# EAGLE library part 9296006 (library J-PokeIn)
[KYOCERA,009296006202906] 6POS POKE-IN
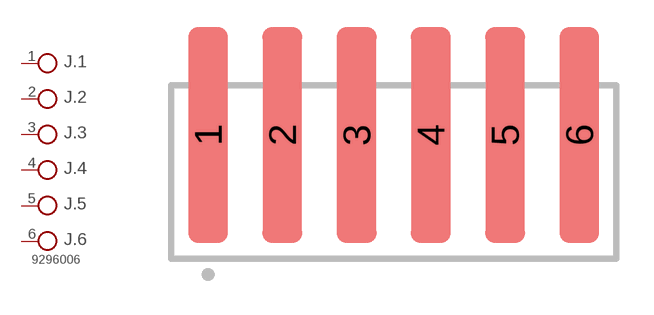
[diagram p0: symbol with the pads of 06; footprint 06]

Designator prefix J; gates .6=SKBV .5=SKB .4=SKB .3=SKB .2=SKB .1=SKB

## 9296006  [06]
1  .1:1  pas
2  .2:1  pas
3  .3:1  pas
4  .4:1  pas
5  .5:1  pas
6  .6:1  pas

## Footprint 06 (pad centres in mm)
smd 1.6 x 8.7: 1 -7.5,1.5; 2 -4.5,1.5; 3 -1.5,1.5; 4 1.5,1.5; 5 4.5,1.5; 6 7.5,1.5